# Altium footprint library TE_ORWH.PcbLib: 1 footprints
Each footprint in its own frame and in the unit in brackets; x right, y up, seen from the top. Pads: shape width x height; smd on the part's side, far side on the other; paste and mask are expansions set on the pad; w line width, h text height; cw(c..) or ccw(c..) is an arc to the next point about the centre after c.
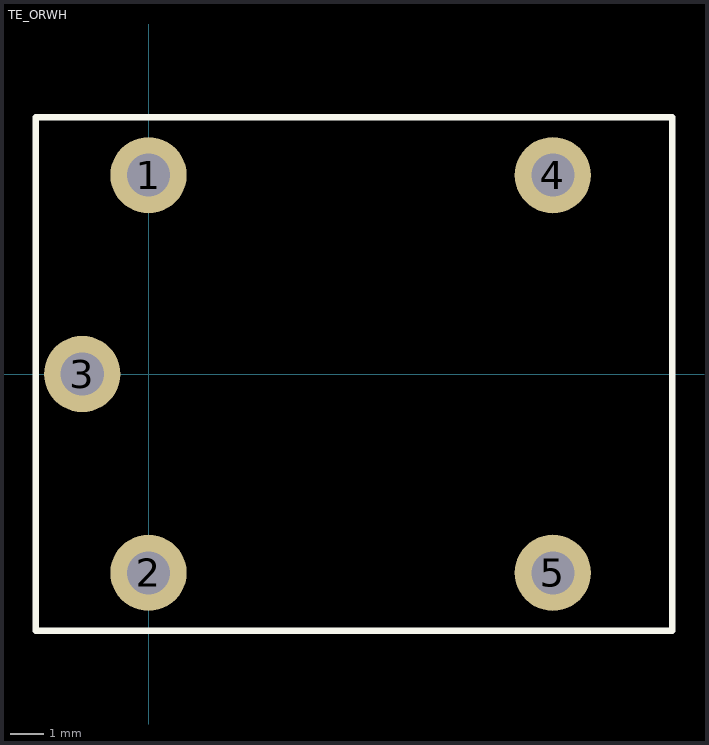
[diagram p0: the footprint, top view; thin cyan lines are the x and y axes]

## TE_ORWH [mm] "TE Conn Potter & Brumfield Relay ORWH series"
pads (5):
  round 2.3 hole 1.3: 1(0,6) 2(0,-6) 3(-2,0) 4(12.2,6) 5(12.2,-6)
Top Overlay:
  lines w0.2: -3.4,-7.75 15.8,-7.75 15.8,7.75 -3.4,7.75 -3.4,-7.75
3D body: height 15, standoff 0, extent -3.4,-7.75 15.8,7.75